# Altium footprint library MT_Chip.PcbLib: 38 footprints (part 1 of 3)
Each footprint in its own frame and in the unit in brackets; x right, y up, seen from the top. Pads: shape width x height; smd on the part's side, far side on the other; paste and mask are expansions set on the pad; w line width, h text height; cw(c..) or ccw(c..) is an arc to the next point about the centre after c.
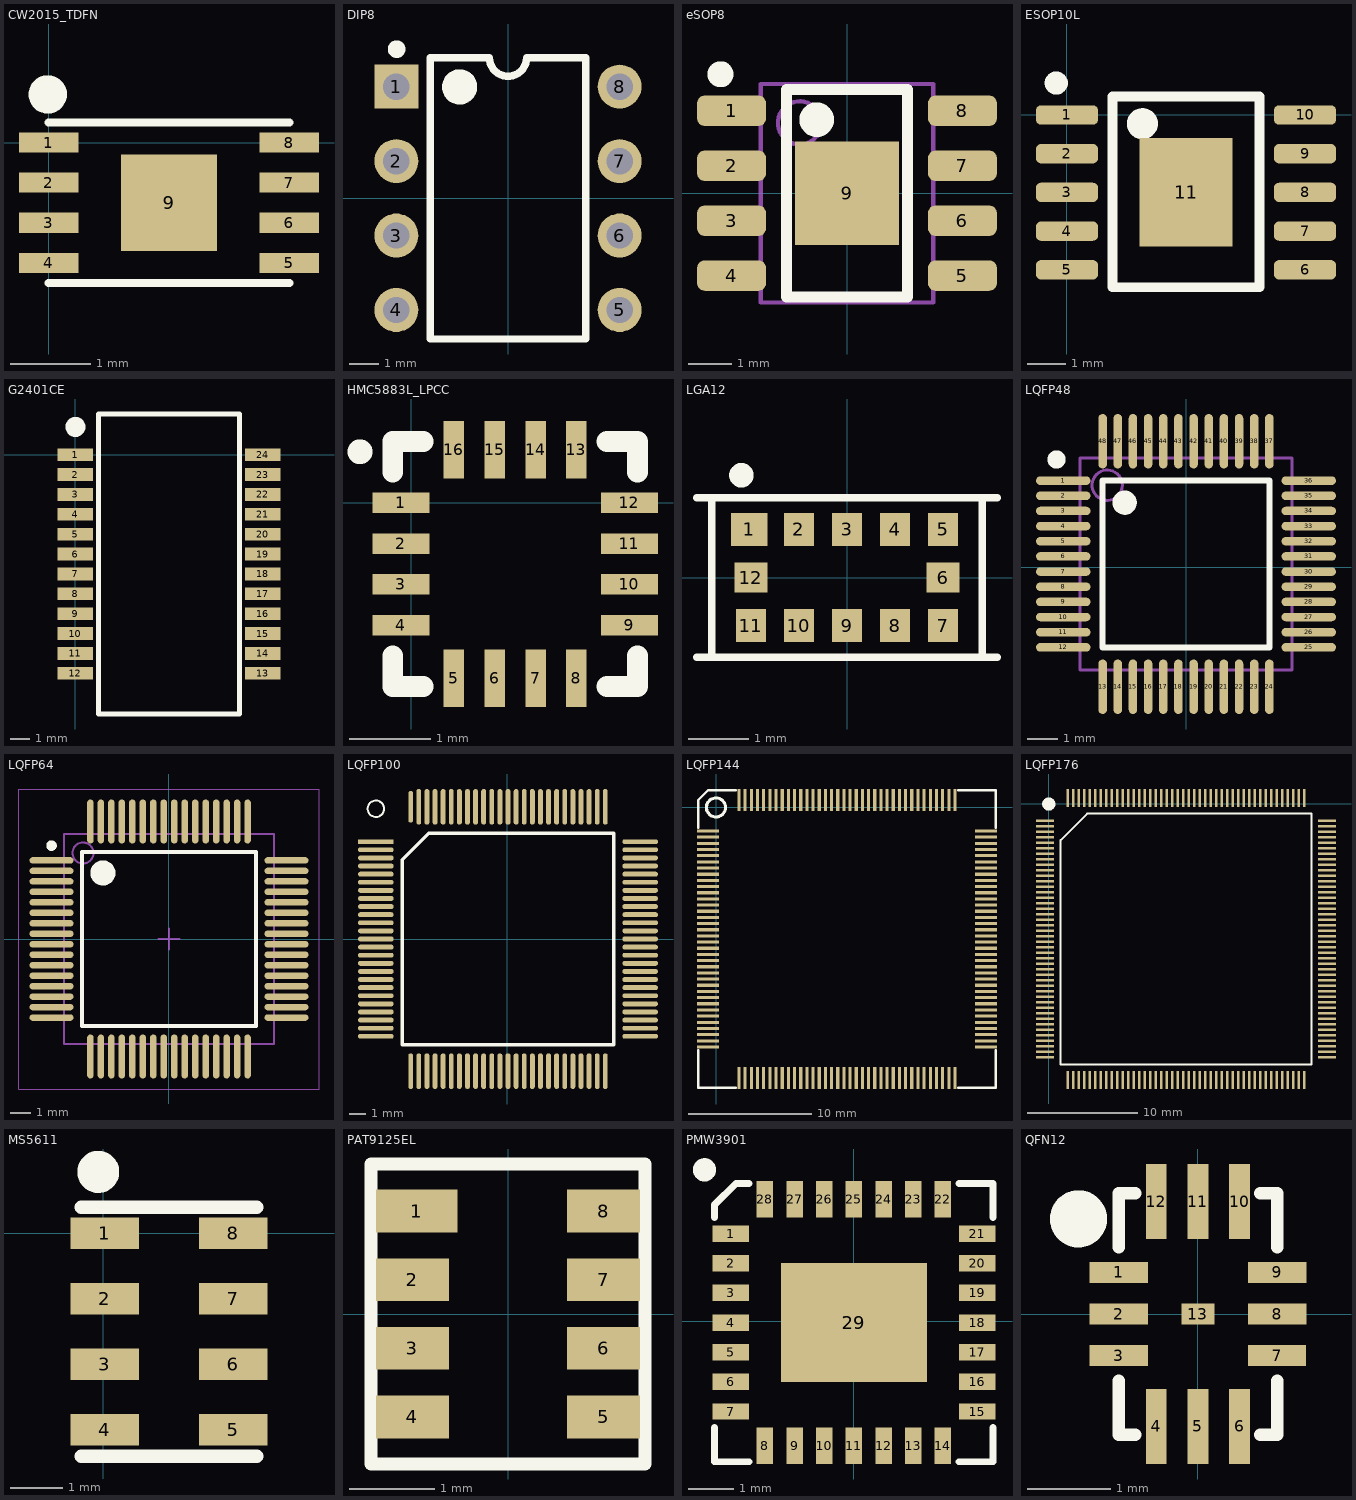
[diagram p0: the footprints below, top view; thin cyan lines are the x and y axes]

## CW2015_TDFN [mm]
pads (9):
  rect 0.74x0.25 smd: 1(0,0) 2(0,-0.5) 3(0,-1) 4(0,-1.5) 5(3,-1.5) 6(3,-1) 7(3,-0.5) 8(3,0)
  rect 1.2x1.2 smd: 9(1.5,-0.75)
Top Overlay:
  circle w0.254: c-0.012,0.6 r0.112
  lines w0.1: 0,-1.75 3,-1.75 ; 0,0.25 3,0.25

## DIP8 [mm]
pads (8):
  rect 1.5x1.5 hole 0.9: 1(-3.81,3.81)
  round 1.5 hole 0.9: 2(-3.81,1.27) 3(-3.81,-1.27) 4(-3.81,-3.81) 5(3.81,-3.81) 6(3.81,-1.27) 7(3.81,1.27) 8(3.81,3.81)
Top Overlay:
  circle w0.6: c-1.65,3.8 r0.3
  circle w0.3: c-3.8,5.09 r0.15
  lines w0.254: -2.65,-4.8 2.65,-4.8 2.65,4.8 0.635,4.8 cw(c0,4.8) -0.635,4.8 -2.65,4.8 -2.65,-4.8
3D body "SW3dPS-DIP08-300.STEP": height 5.08, standoff -2.49, extent -3.935,-5.46 3.935,5.46

## eSOP8 [mm]
pads (9):
  rrect50% 1.6x0.7 smd: 1(-2.667,1.905) 2(-2.667,0.635) 3(-2.667,-0.635) 4(-2.667,-1.905) 5(2.667,-1.905) 6(2.667,-0.635) 7(2.667,0.635) 8(2.667,1.905)
  rect 2.4x2.4 smd: 9(0,0)
Top Overlay:
  circle w0.4: c-0.7,1.7 r0.2
  circle w0.3: c-2.925,2.75 r0.15
  lines w0.254: -1.4,-2.4 1.4,-2.4 1.4,2.4 -1.4,2.4 -1.4,-2.4
Mechanical 13:
  circle w0.1: c-1.095,1.625 r0.5
  lines w0.1: -1.995,-2.525 1.995,-2.525 1.995,2.525 -1.995,2.525 -1.995,-2.525
3D body "User Library-SOIC-8-150.STEP": height 1.75, standoff 0, extent -3.1,-2.5 3.1,2.5

## ESOP10L [mm]
pads (11):
  rrect50% 1.6x0.5 smd: 1(0,0) 2(0,-1) 3(0,-2) 4(0,-3) 5(0,-4) 6(6.15,-4) 7(6.15,-3) 8(6.15,-2) 9(6.15,-1) 10(6.15,0)
  rect 2.4x2.8 smd: 11(3.075,-2)
Top Overlay:
  circle w0.3: c-0.275,0.825 r0.15
  circle w0.4: c1.95,-0.225 r0.2
  lines w0.254: 1.175,-4.45 1.175,0.475 4.975,0.475 4.975,-4.45 1.175,-4.45

## G2401CE [mm]
pads (24):
  rect 1.78x0.64 smd: 1(0,0) 2(0,-1) 3(0,-2) 4(0,-3) 5(0,-4) 6(0,-5) 7(0,-6) 8(0,-7) 9(0,-8) 10(0,-9) 11(0,-10) 12(0,-11) 13(9.42,-11) 14(9.42,-10) 15(9.42,-9) 16(9.42,-8) 17(9.42,-7) 18(9.42,-6) 19(9.42,-5) 20(9.42,-4) 21(9.42,-3) 22(9.42,-2) 23(9.42,-1) 24(9.42,0)
Top Overlay:
  circle w0.7: c0,1.4 r0.15
  lines w0.254: 1.16,-13.05 8.26,-13.05 8.26,2.05 1.16,2.05 1.16,-13.05
3D body: height 4.5, standoff 0, extent 1.15,-13.05 8.275,2.05

## HMC5883L_LPCC [mm]
pads (16):
  rect 0.7x0.25 smd: 1(-0.125,0) 2(-0.125,-0.5) 3(-0.125,-1) 4(-0.125,-1.5) 9(2.675,-1.5) 10(2.675,-1) 11(2.675,-0.5) 12(2.675,0)
  rect 0.25x0.7 smd: 5(0.525,-2.15) 6(1.025,-2.15) 7(1.525,-2.15) 8(2.025,-2.15) 13(2.025,0.65) 14(1.525,0.65) 15(1.025,0.65) 16(0.525,0.65)
Top Overlay:
  circle w0.254: c-0.625,0.625 r0.025
  lines w0.254: -0.225,-1.875 -0.225,-2.25 0.15,-2.25 ; -0.225,0.375 -0.225,0.75 0.15,0.75 ; 2.4,-2.25 2.775,-2.25 2.775,-1.875 ; 2.4,0.75 2.775,0.75 2.775,0.375

## LGA12 [mm]
pads (12):
  rect 0.6x0.55 smd: 1(-1.625,0.8)
  rect 0.5x0.55 smd: 2(-0.8,0.8) 3(0,0.8) 4(0.8,0.8) 5(1.6,0.8) 7(1.6,-0.8) 8(0.8,-0.8) 9(0,-0.8) 10(-0.8,-0.8) 11(-1.6,-0.8)
  rect 0.55x0.5 smd: 6(1.6,0) 12(-1.6,0)
Top Overlay:
  circle w0.254: c-1.755,1.702 r0.076
  lines w0.127: -2.495,-1.326 2.495,-1.326 ; -2.495,1.326 2.495,1.326 ; -2.25,-1.326 -2.25,1.326 ; 2.25,-1.326 2.25,1.326

## LQFP48 [mm]
pads (48):
  oval 1.8x0.28 smd mask+0.051: 1(-4.05,2.85) 2(-4.05,2.35) 3(-4.05,1.85) 4(-4.05,1.35) 5(-4.05,0.85) 6(-4.05,0.35) 7(-4.05,-0.15) 8(-4.05,-0.65) 9(-4.05,-1.15) 10(-4.05,-1.65) 11(-4.05,-2.15) 12(-4.05,-2.65) 25(4.05,-2.65) 26(4.05,-2.15) 27(4.05,-1.65) 28(4.05,-1.15) 29(4.05,-0.65) 30(4.05,-0.15) 31(4.05,0.35) 32(4.05,0.85) 33(4.05,1.35) 34(4.05,1.85) 35(4.05,2.35) 36(4.05,2.85)
  oval 0.28x1.8 smd mask+0.051: 13(-2.75,-3.95) 14(-2.25,-3.95) 15(-1.75,-3.95) 16(-1.25,-3.95) 17(-0.75,-3.95) 18(-0.25,-3.95) 19(0.25,-3.95) 20(0.75,-3.95) 21(1.25,-3.95) 22(1.75,-3.95) 23(2.25,-3.95) 24(2.75,-3.95) 37(2.75,4.15) 38(2.25,4.15) 39(1.75,4.15) 40(1.25,4.15) 41(0.75,4.15) 42(0.25,4.15) 43(-0.25,4.15) 44(-0.75,4.15) 45(-1.25,4.15) 46(-1.75,4.15) 47(-2.25,4.15) 48(-2.75,4.15)
Top Overlay:
  circle w0.3: c-4.275,3.55 r0.15
  circle w0.4: c-2.025,2.125 r0.2
  lines w0.2: -2.75,-2.65 -2.75,2.85 2.75,2.85 2.75,-2.65 -2.75,-2.65
Mechanical 13:
  circle w0.1: c-2.6,2.7 r0.5
  lines w0.1: -3.5,-3.4 -3.5,3.6 3.5,3.6 3.5,-3.4 -3.5,-3.4

## LQFP64 [mm]
pads (64):
  oval 2.1x0.3 smd: 1(-5.6,3.75) 2(-5.6,3.25) 3(-5.6,2.75) 4(-5.6,2.25) 5(-5.6,1.75) 6(-5.6,1.25) 7(-5.6,0.75) 8(-5.6,0.25) 9(-5.6,-0.25) 10(-5.6,-0.75) 11(-5.6,-1.25) 12(-5.6,-1.75) 13(-5.6,-2.25) 14(-5.6,-2.75) 15(-5.6,-3.25) 16(-5.6,-3.75) 33(5.6,-3.75) 34(5.6,-3.25) 35(5.6,-2.75) 36(5.6,-2.25) 37(5.6,-1.75) 38(5.6,-1.25) 39(5.6,-0.75) 40(5.6,-0.25) 41(5.6,0.25) 42(5.6,0.75) 43(5.6,1.25) 44(5.6,1.75) 45(5.6,2.25) 46(5.6,2.75) 47(5.6,3.25) 48(5.6,3.75)
  oval 0.3x2.1 smd: 17(-3.75,-5.6) 18(-3.25,-5.6) 19(-2.75,-5.6) 20(-2.25,-5.6) 21(-1.75,-5.6) 22(-1.25,-5.6) 23(-0.75,-5.6) 24(-0.25,-5.6) 25(0.25,-5.6) 26(0.75,-5.6) 27(1.25,-5.6) 28(1.75,-5.6) 29(2.25,-5.6) 30(2.75,-5.6) 31(3.25,-5.6) 32(3.75,-5.6) 49(3.75,5.6) 50(3.25,5.6) 51(2.75,5.6) 52(2.25,5.6) 53(1.75,5.6) 54(1.25,5.6) 55(0.75,5.6) 56(0.25,5.6) 57(-0.25,5.6) 58(-0.75,5.6) 59(-1.25,5.6) 60(-1.75,5.6) 61(-2.25,5.6) 62(-2.75,5.6) 63(-3.25,5.6) 64(-3.75,5.6)
Top Overlay:
  circle w0.6: c-3.15,3.15 r0.3
  circle w0.25: c-5.6,4.45 r0.125
  lines w0.2: -4.15,-4.15 4.15,-4.15 4.15,4.15 -4.15,4.15 -4.15,-4.15
Mechanical 13:
  circle w0.1: c-4.1,4.1 r0.5
  lines w0.1: -5,-5 5,-5 5,5 -5,5 -5,-5
Mechanical 15:
  lines w0.05: -7.15,-7.15 7.15,-7.15 7.15,7.15 -7.15,7.15 -7.15,-7.15
  lines w0.1: -0.5,0 0.5,0 ; 0,-0.5 0,0.5
3D body: height 1.6, standoff 0.05, extent -5,-5 5,5

## LQFP100 [mm]
pads (100):
  rect 2.2x0.3 smd: 1(-8.1,6)
  oval 2.2x0.3 smd: 2(-8.1,5.5) 3(-8.1,5) 4(-8.1,4.5) 5(-8.1,4) 6(-8.1,3.5) 7(-8.1,3) 8(-8.1,2.5) 9(-8.1,2) 10(-8.1,1.5) 11(-8.1,1) 12(-8.1,0.5) 13(-8.1,0) 14(-8.1,-0.5) 15(-8.1,-1) 16(-8.1,-1.5) 17(-8.1,-2) 18(-8.1,-2.5) 19(-8.1,-3) 20(-8.1,-3.5) 21(-8.1,-4) 22(-8.1,-4.5) 23(-8.1,-5) 24(-8.1,-5.5) 25(-8.1,-6) 51(8.2,-6) 52(8.2,-5.5) 53(8.2,-5) 54(8.2,-4.5) 55(8.2,-4) 56(8.2,-3.5) 57(8.2,-3) 58(8.2,-2.5) 59(8.2,-2) 60(8.2,-1.5) 61(8.2,-1) 62(8.2,-0.5) 63(8.2,0) 64(8.2,0.5) 65(8.2,1) 66(8.2,1.5) 67(8.2,2) 68(8.2,2.5) 69(8.2,3) 70(8.2,3.5) 71(8.2,4) 72(8.2,4.5) 73(8.2,5) 74(8.2,5.5) 75(8.2,6)
  oval 0.3x2.2 smd: 26(-5.95,-8.15) 27(-5.45,-8.15) 28(-4.95,-8.15) 29(-4.45,-8.15) 30(-3.95,-8.15) 31(-3.45,-8.15) 32(-2.95,-8.15) 33(-2.45,-8.15) 34(-1.95,-8.15) 35(-1.45,-8.15) 36(-0.95,-8.15) 37(-0.45,-8.15) 38(0.05,-8.15) 39(0.55,-8.15) 40(1.05,-8.15) 41(1.55,-8.15) 42(2.05,-8.15) 43(2.55,-8.15) 44(3.05,-8.15) 45(3.55,-8.15) 46(4.05,-8.15) 47(4.55,-8.15) 48(5.05,-8.15) 49(5.55,-8.15) 50(6.05,-8.15) 76(6.05,8.15) 77(5.55,8.15) 78(5.05,8.15) 79(4.55,8.15) 80(4.05,8.15) 81(3.55,8.15) 82(3.05,8.15) 83(2.55,8.15) 84(2.05,8.15) 85(1.55,8.15) 86(1.05,8.15) 87(0.55,8.15) 88(0.05,8.15) 89(-0.45,8.15) 90(-0.95,8.15) 91(-1.45,8.15) 92(-1.95,8.15) 93(-2.45,8.15) 94(-2.95,8.15) 95(-3.45,8.15) 96(-3.95,8.15) 97(-4.45,8.15) 98(-4.95,8.15) 99(-5.45,8.15)
  oval 0.3x1.95 smd: 100(-5.95,8.15)
Top Overlay:
  circle w0.127: c-8.1,8.032 r0.508
  lines w0.2: -6.465,-6.515 6.565,-6.515 6.565,6.515 -4.83,6.515 -6.465,4.88 -6.465,-6.515
3D body "LQFP100_14X14X1.6_P0.5_ST.step": height 1.6, standoff 0, extent -7.95,-8 8.05,8

## LQFP144 [mm]
pads (144):
  rect 1.8x0.254 smd: 1(-0.644,-1.904) 2(-0.644,-2.404) 3(-0.644,-2.904) 4(-0.644,-3.404) 5(-0.644,-3.904) 6(-0.644,-4.404) 7(-0.644,-4.904) 8(-0.644,-5.404) 9(-0.644,-5.904) 10(-0.644,-6.404) 11(-0.644,-6.904) 12(-0.644,-7.404) 13(-0.644,-7.904) 14(-0.644,-8.404) 15(-0.644,-8.904) 16(-0.644,-9.404) 17(-0.644,-9.904) 18(-0.644,-10.404) 19(-0.644,-10.904) 20(-0.644,-11.404) 21(-0.644,-11.904) 22(-0.644,-12.404) 23(-0.644,-12.904) 24(-0.644,-13.404) 25(-0.644,-13.904) 26(-0.644,-14.404) 27(-0.644,-14.904) 28(-0.644,-15.404) 29(-0.644,-15.904) 30(-0.644,-16.404) 31(-0.644,-16.904) 32(-0.644,-17.404) 33(-0.644,-17.904) 34(-0.644,-18.404) 35(-0.644,-18.904) 36(-0.644,-19.404) 73(21.856,-19.404) 74(21.856,-18.904) 75(21.856,-18.404) 76(21.856,-17.904) 77(21.856,-17.404) 78(21.856,-16.904) 79(21.856,-16.404) 80(21.856,-15.904) 81(21.856,-15.404) 82(21.856,-14.904) 83(21.856,-14.404) 84(21.856,-13.904) 85(21.856,-13.404) 86(21.856,-12.904) 87(21.856,-12.404) 88(21.856,-11.904) 89(21.856,-11.404) 90(21.856,-10.904) 91(21.856,-10.404) 92(21.856,-9.904) 93(21.856,-9.404) 94(21.856,-8.904) 95(21.856,-8.404) 96(21.856,-7.904) 97(21.856,-7.404) 98(21.856,-6.904) 99(21.856,-6.404) 100(21.856,-5.904) 101(21.856,-5.404) 102(21.856,-4.904) 103(21.856,-4.404) 104(21.856,-3.904) 105(21.856,-3.404) 106(21.856,-2.904) 107(21.856,-2.404) 108(21.856,-1.904)
  rect 0.254x1.8 smd: 37(1.856,-21.904) 38(2.356,-21.904) 39(2.856,-21.904) 40(3.356,-21.904) 41(3.856,-21.904) 42(4.356,-21.904) 43(4.856,-21.904) 44(5.356,-21.904) 45(5.856,-21.904) 46(6.356,-21.904) 47(6.856,-21.904) 48(7.356,-21.904) 49(7.856,-21.904) 50(8.356,-21.904) 51(8.856,-21.904) 52(9.356,-21.904) 53(9.856,-21.904) 54(10.356,-21.904) 55(10.856,-21.904) 56(11.356,-21.904) 57(11.856,-21.904) 58(12.356,-21.904) 59(12.856,-21.904) 60(13.356,-21.904) 61(13.856,-21.904) 62(14.356,-21.904) 63(14.856,-21.904) 64(15.356,-21.904) 65(15.856,-21.904) 66(16.356,-21.904) 67(16.856,-21.904) 68(17.356,-21.904) 69(17.856,-21.904) 70(18.356,-21.904) 71(18.856,-21.904) 72(19.356,-21.904) 109(19.356,0.596) 110(18.856,0.596) 111(18.356,0.596) 112(17.856,0.596) 113(17.356,0.596) 114(16.856,0.596) 115(16.356,0.596) 116(15.856,0.596) 117(15.356,0.596) 118(14.856,0.596) 119(14.356,0.596) 120(13.856,0.596) 121(13.356,0.596) 122(12.856,0.596) 123(12.356,0.596) 124(11.856,0.596) 125(11.356,0.596) 126(10.856,0.596) 127(10.356,0.596) 128(9.856,0.596) 129(9.356,0.596) 130(8.856,0.596) 131(8.356,0.596) 132(7.856,0.596) 133(7.356,0.596) 134(6.856,0.596) 135(6.356,0.596) 136(5.856,0.596) 137(5.356,0.596) 138(4.856,0.596) 139(4.356,0.596) 140(3.856,0.596) 141(3.356,0.596) 142(2.856,0.596) 143(2.356,0.596) 144(1.856,0.596)
Top Overlay:
  circle w0.254: c-0.011,0 r0.773
  lines w0.2: -1.444,-19.654 -1.444,-22.704 1.606,-22.704 ; -1.444,-1.654 -1.444,0.596 -0.644,1.396 1.606,1.396 ; 19.606,-22.704 22.656,-22.704 22.656,-19.654 ; 19.606,1.396 22.656,1.396 22.656,-1.654

## LQFP176 [mm]
pads (176):
  rect 1.65x0.254 smd: 1(-0.35,-1.55) 2(-0.35,-2.05) 3(-0.35,-2.55) 4(-0.35,-3.05) 5(-0.35,-3.55) 6(-0.35,-4.05) 7(-0.35,-4.55) 8(-0.35,-5.05) 9(-0.35,-5.55) 10(-0.35,-6.05) 11(-0.35,-6.55) 12(-0.35,-7.05) 13(-0.35,-7.55) 14(-0.35,-8.05) 15(-0.35,-8.55) 16(-0.35,-9.05) 17(-0.35,-9.55) 18(-0.35,-10.05) 19(-0.35,-10.55) 20(-0.35,-11.05) 21(-0.35,-11.55) 22(-0.35,-12.05) 23(-0.35,-12.55) 24(-0.35,-13.05) 25(-0.35,-13.55) 26(-0.35,-14.05) 27(-0.35,-14.55) 28(-0.35,-15.05) 29(-0.35,-15.55) 30(-0.35,-16.05) 31(-0.35,-16.55) 32(-0.35,-17.05) 33(-0.35,-17.55) 34(-0.35,-18.05) 35(-0.35,-18.55) 36(-0.35,-19.05) 37(-0.35,-19.55) 38(-0.35,-20.05) 39(-0.35,-20.55) 40(-0.35,-21.05) 41(-0.35,-21.55) 42(-0.35,-22.05) 43(-0.35,-22.55) 44(-0.35,-23.05) 89(25.281,-23.05) 90(25.281,-22.55) 91(25.281,-22.05) 92(25.281,-21.55) 93(25.281,-21.05) 94(25.281,-20.55) 95(25.281,-20.05) 96(25.281,-19.55) 97(25.281,-19.05) 98(25.281,-18.55) 99(25.281,-18.05) 100(25.281,-17.55) 101(25.281,-17.05) 102(25.281,-16.55) 103(25.281,-16.05) 104(25.281,-15.55) 105(25.281,-15.05) 106(25.281,-14.55) 107(25.281,-14.05) 108(25.281,-13.55) 109(25.281,-13.05) 110(25.281,-12.55) 111(25.281,-12.05) 112(25.281,-11.55) 113(25.281,-11.05) 114(25.281,-10.55) 115(25.281,-10.05) 116(25.281,-9.55) 117(25.281,-9.05) 118(25.281,-8.55) 119(25.281,-8.05) 120(25.281,-7.55) 121(25.281,-7.05) 122(25.281,-6.55) 123(25.281,-6.05) 124(25.281,-5.55) 125(25.281,-5.05) 126(25.281,-4.55) 127(25.281,-4.05) 128(25.281,-3.55) 129(25.281,-3.05) 130(25.281,-2.55) 131(25.281,-2.05) 132(25.281,-1.55)
  rect 0.254x1.65 smd: 45(1.715,-25.116) 46(2.216,-25.116) 47(2.716,-25.116) 48(3.216,-25.116) 49(3.716,-25.116) 50(4.215,-25.116) 51(4.716,-25.116) 52(5.215,-25.116) 53(5.716,-25.116) 54(6.215,-25.116) 55(6.716,-25.116) 56(7.215,-25.116) 57(7.716,-25.116) 58(8.215,-25.116) 59(8.716,-25.116) 60(9.215,-25.116) 61(9.716,-25.116) 62(10.215,-25.116) 63(10.716,-25.116) 64(11.215,-25.116) 65(11.716,-25.116) 66(12.215,-25.116) 67(12.716,-25.116) 68(13.215,-25.116) 69(13.716,-25.116) 70(14.215,-25.116) 71(14.716,-25.116) 72(15.216,-25.116) 73(15.716,-25.116) 74(16.216,-25.116) 75(16.715,-25.116) 76(17.216,-25.116) 77(17.715,-25.116) 78(18.216,-25.116) 79(18.715,-25.116) 80(19.216,-25.116) 81(19.715,-25.116) 82(20.216,-25.116) 83(20.715,-25.116) 84(21.216,-25.116) 85(21.715,-25.116) 86(22.216,-25.116) 87(22.715,-25.116) 88(23.216,-25.116) 133(23.216,0.515) 134(22.715,0.515) 135(22.216,0.515) 136(21.715,0.515) 137(21.216,0.515) 138(20.715,0.515) 139(20.216,0.515) 140(19.715,0.515) 141(19.216,0.515) 142(18.715,0.515) 143(18.216,0.515) 144(17.715,0.515) 145(17.216,0.515) 146(16.715,0.515) 147(16.216,0.515) 148(15.716,0.515) 149(15.216,0.515) 150(14.716,0.515) 151(14.215,0.515) 152(13.716,0.515) 153(13.215,0.515) 154(12.716,0.515) 155(12.215,0.515) 156(11.716,0.515) 157(11.215,0.515) 158(10.716,0.515) 159(10.215,0.515) 160(9.716,0.515) 161(9.215,0.515) 162(8.716,0.515) 163(8.215,0.515) 164(7.716,0.515) 165(7.215,0.515) 166(6.716,0.515) 167(6.215,0.515) 168(5.716,0.515) 169(5.215,0.515) 170(4.716,0.515) 171(4.215,0.515) 172(3.716,0.515) 173(3.216,0.515) 174(2.716,0.515) 175(2.216,0.515) 176(1.715,0.515)
Top Overlay:
  circle w0.6: c-0.015,-0.026 r0.3
  lines w0.2: 1.065,-23.7 23.865,-23.7 23.865,-0.9 3.475,-0.9 1.065,-3.31 1.065,-23.7

## MS5611 [mm]
pads (8):
  rect 1.3x0.6 smd: 1(0.025,0) 2(0.025,-1.25) 3(0.025,-2.5) 4(0.025,-3.75) 5(2.475,-3.75) 6(2.475,-2.5) 7(2.475,-1.25) 8(2.475,0)
Top Overlay:
  circle w0.5: c-0.1,1.175 r0.15
  lines w0.254: -0.425,-4.25 2.925,-4.25 ; -0.425,0.5 2.925,0.5

## PAT9125EL [mm]
pads (8):
  rect 0.95x0.5 smd: 1(-1.065,1.2)
  rect 0.85x0.5 smd: 2(-1.115,0.4) 3(-1.115,-0.4) 4(-1.115,-1.2) 5(1.115,-1.2) 6(1.115,-0.4) 7(1.115,0.4) 8(1.115,1.2)
Top Overlay:
  lines w0.15: -1.6,-1.75 -1.6,0 -1.6,1.75 0,1.75 1.6,1.75 1.6,0 1.6,-1.75 0,-1.75 -1.6,-1.75
3D body "PAT9125EL.STEP": height 1, standoff -0.05, extent -1.6,-1.75 1.6,1.75

## PMW3901 [mm]
pads (29):
  rect 0.8x0.36 smd: 1(-2.7,1.925) 2(-2.7,1.275) 3(-2.7,0.625) 4(-2.7,-0.025) 5(-2.7,-0.675) 6(-2.7,-1.325) 7(-2.7,-1.975) 15(2.7,-1.975) 16(2.7,-1.325) 17(2.7,-0.675) 18(2.7,-0.025) 19(2.7,0.625) 20(2.7,1.275) 21(2.7,1.925)
  rect 0.36x0.8 smd: 8(-1.95,-2.725) 9(-1.3,-2.725) 10(-0.65,-2.725) 11(0,-2.725) 12(0.65,-2.725) 13(1.3,-2.725) 14(1.95,-2.725) 22(1.95,2.675) 23(1.3,2.675) 24(0.65,2.675) 25(0,2.675) 26(-0.65,2.675) 27(-1.3,2.675) 28(-1.95,2.675)
  rect 3.2x2.6 smd: 29(0,-0.025)
Top Overlay:
  circle w0.254: c-3.277,3.323 r0.127
  lines w0.152: -3.051,-2.325 -3.051,-3.076 -2.3,-3.076 ; -3.051,2.275 -3.051,2.563 -2.588,3.026 -2.3,3.026 ; 2.3,-3.076 3.051,-3.076 3.051,-2.325 ; 2.3,3.026 3.051,3.026 3.051,2.275

## QFN12 [mm]
pads (13):
  rect 0.7x0.25 smd: 1(-0.95,0.5) 2(-0.95,0) 3(-0.95,-0.5) 7(0.95,-0.5) 8(0.95,0) 9(0.95,0.5)
  rect 0.25x0.9 smd: 4(-0.5,-1.35) 5(0,-1.35) 6(0.5,-1.35) 10(0.5,1.35) 11(0,1.35) 12(-0.5,1.35)
  rect 0.4x0.25 smd: 13(0,0)
Top Overlay:
  circle w0.381: c-1.434,1.142 r0.152
  lines w0.15: -0.95,-0.8 -0.95,-1.45 -0.75,-1.45 ; -0.95,0.8 -0.95,1.45 -0.75,1.45 ; 0.75,-1.45 0.95,-1.45 0.95,-0.8 ; 0.75,1.45 0.95,1.45 0.95,0.8
3D body: height 1, standoff 0.03, extent -0.95,-1.45 0.95,1.45